# Altium schematic symbol library R_12K_RK73B1ETTP123J.SchLib: 1 symbol
Pins are listed as number, name and electrical type; pins without a type are passive.

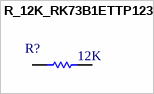
[diagram p0: symbol R_12K_RK73B1ETTP123J]

## R_12K_RK73B1ETTP123J
designator R?  (value not drawn)
footprint RESC1005X03N (Chip Resistor, 2-Leads, Body 1.00x0.50mm, IPC Medium Density)
pins: 1, 2
text: 12K